# Altium schematic symbol library Buttons.SchLib: 1 symbol
Pins are listed as number, name and electrical type; pins without a type are passive.

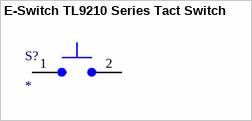
[diagram p0: symbol E-Switch TL9210 Series Tact Switch]

## E-Switch TL9210 Series Tact Switch
designator S?
SWITCH TACTILE SPST-NO 0.05A 12V; Manufacturer: E-Switch; Manufacturer Part Number: TL9210AF260Q; Mechanical Life: 100000Cycles; Illumination Type: Non-Illuminated; Operating Force: 260gf; Throw Configuration: SPST; Switch Travel: 1.3mm; Switch Function: Off-Mom; Supplier 1: Digi-Key; Stock 1: 4135; Pricing 1: 1 = 0.59000, 10 = 0.56400, 25 = 0.55400, 50 = 0.53300, 100 = 0.45980, 250 = 0.41804, 500 = 0.39712 (USD); RoHS 1: Yes; Mount: Surface Mount; Min Operating Temperature: -20°C; Max Operating Temperature: 70°C; Packaging: Tape and Reel; Termination: Gull Wing; Lead Free: Lead Free; ComponentLink1URL: http://www.mouser.com/ds/2/140/e-switch_TL9210-371502.pdf?src-supplier=Mouser; ComponentLink1Description: Datasheet 1 (Mouser); ComponentLink2URL: https://media.digikey.com/pdf/Data%20Sheets/E-Switch%20PDFs/TL9210.pdf?src-supplier=Digi-Key; ComponentLink2Description: Datasheet 2 (Digi-Key); Supplier Part Number 1: EG2664CT-ND
footprint E-Switch TL9210 Series Tact Switch
pins: 1, 2